# EAGLE library part MCP4461 (library MCP4461)
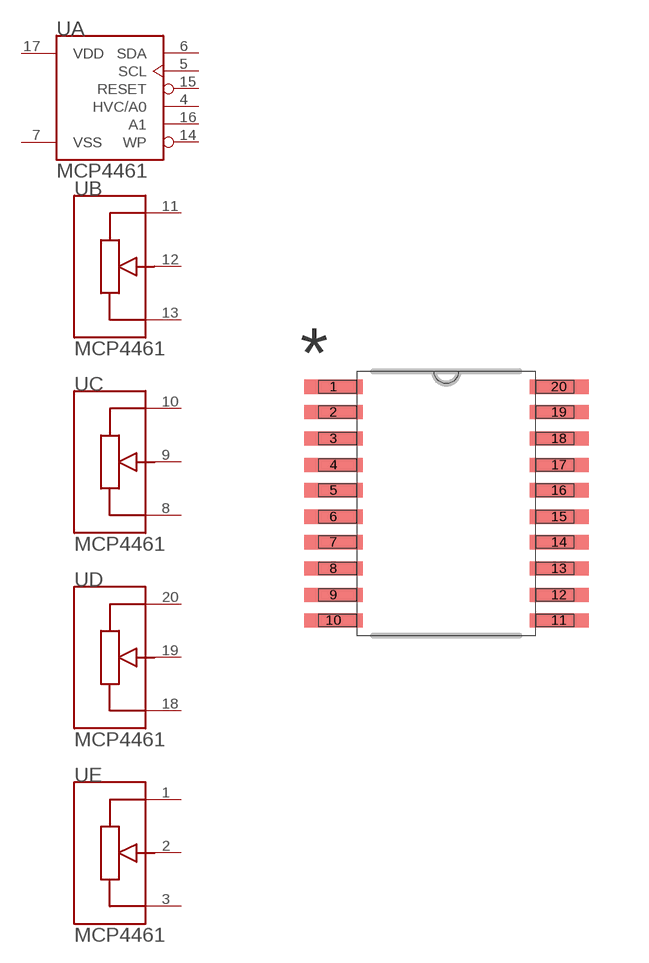
[diagram p0: symbol with the pads of TSSOP20_MC; footprint TSSOP20_MC]

Designator prefix U; gates A=PWR-COMMS B=DIGIPOT C=DIGIPOT D=DIGIPOT E=DIGIPOT

## MCP4461/ST  [TSSOP20_MC]
1  E:A  in
2  E:W  in
3  E:B  in
4  A:HVC/A0  in
5  A:SCL
6  A:SDA
7  A:VSS  pwr
8  C:B  in
9  C:W  in
10  C:A  in
11  B:A  in
12  B:W  in
13  B:B  in
14  A:WP  in
15  A:RESET  in
16  A:A1  in
17  A:VDD  pwr
18  D:B  in
19  D:W  in
20  D:A  in

## Footprint TSSOP20_MC (pad centres in mm)
smd 1.473 x 0.356: 1 -2.819,2.921; 2 -2.819,2.286; 3 -2.819,1.626; 4 -2.819,0.965; 5 -2.819,0.33; 6 -2.819,-0.33; 7 -2.819,-0.965; 8 -2.819,-1.626; 9 -2.819,-2.286; 10 -2.819,-2.921; 11 2.819,-2.921; 12 2.819,-2.286; 13 2.819,-1.626; 14 2.819,-0.965; 15 2.819,-0.33; 16 2.819,0.33; 17 2.819,0.965; 18 2.819,1.626; 19 2.819,2.286; 20 2.819,2.921